# Altium footprint library LFCSP-72.PcbLib: 1 footprints
Each footprint in its own frame and in the unit in brackets; x right, y up, seen from the top. Pads: shape width x height; smd on the part's side, far side on the other; paste and mask are expansions set on the pad; w line width, h text height; cw(c..) or ccw(c..) is an arc to the next point about the centre after c.
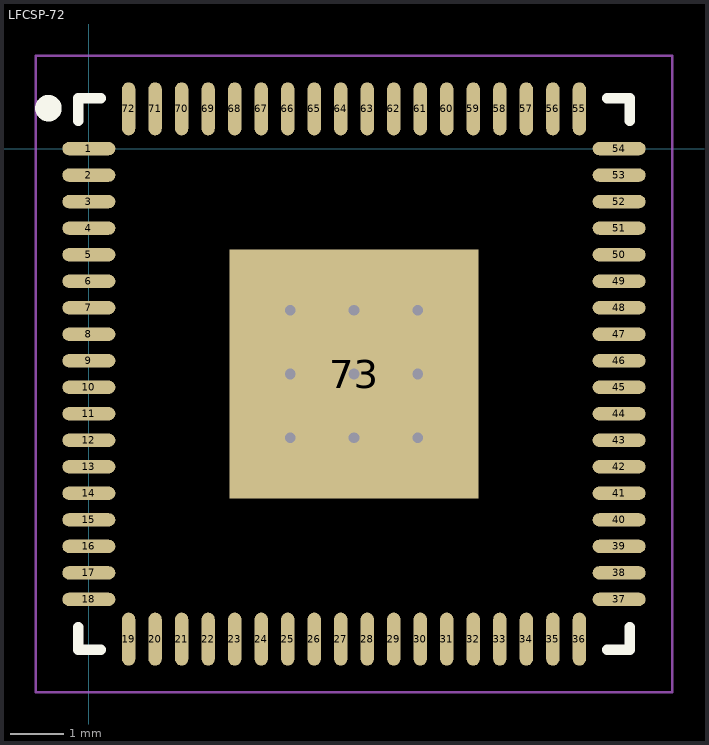
[diagram p0: the footprint, top view; thin cyan lines are the x and y axes]

## LFCSP-72 [mm]
pads (73):
  oval 1x0.25 smd: 1(0,0) 2(0,-0.5) 3(0,-1) 4(0,-1.5) 5(0,-2) 6(0,-2.5) 7(0,-3) 8(0,-3.5) 9(0,-4) 10(0,-4.5) 11(0,-5) 12(0,-5.5) 13(0,-6) 14(0,-6.5) 15(0,-7) 16(0,-7.5) 17(0,-8) 18(0,-8.5) 37(10,-8.5) 38(10,-8) 39(10,-7.5) 40(10,-7) 41(10,-6.5) 42(10,-6) 43(10,-5.5) 44(10,-5) 45(10,-4.5) 46(10,-4) 47(10,-3.5) 48(10,-3) 49(10,-2.5) 50(10,-2) 51(10,-1.5) 52(10,-1) 53(10,-0.5) 54(10,0)
  oval 0.25x1 smd: 19(0.75,-9.25) 20(1.25,-9.25) 21(1.75,-9.25) 22(2.25,-9.25) 23(2.75,-9.25) 24(3.25,-9.25) 25(3.75,-9.25) 26(4.25,-9.25) 27(4.75,-9.25) 28(5.25,-9.25) 29(5.75,-9.25) 30(6.25,-9.25) 31(6.75,-9.25) 32(7.25,-9.25) 33(7.75,-9.25) 34(8.25,-9.25) 35(8.75,-9.25) 36(9.25,-9.25) 55(9.25,0.75) 56(8.75,0.75) 57(8.25,0.75) 58(7.75,0.75) 59(7.25,0.75) 60(6.75,0.75) 61(6.25,0.75) 62(5.75,0.75) 63(5.25,0.75) 64(4.75,0.75) 65(4.25,0.75) 66(3.75,0.75) 67(3.25,0.75) 68(2.75,0.75) 69(2.25,0.75) 70(1.75,0.75) 71(1.25,0.75) 72(0.75,0.75)
  rect 4.7x4.7 smd paste-2.35: 73(5,-4.25)
via 3.8,-5.45 diameter 0.5 hole 0.2
via 5,-5.45 diameter 0.5 hole 0.2
via 6.2,-5.45 diameter 0.5 hole 0.2
via 3.8,-4.25 diameter 0.5 hole 0.2
via 5,-4.25 diameter 0.5 hole 0.2
via 6.2,-4.25 diameter 0.5 hole 0.2
via 6.2,-3.05 diameter 0.5 hole 0.2
via 5,-3.05 diameter 0.5 hole 0.2
via 3.8,-3.05 diameter 0.5 hole 0.2
Top Overlay:
  circle w0.25: c-0.762,0.762 r0.125
  lines w0.2: -0.2,-9.025 -0.2,-9.45 0.225,-9.45 ; -0.2,0.525 -0.2,0.95 0.225,0.95 ; 9.775,-9.45 10.2,-9.45 10.2,-9.025 ; 9.775,0.95 10.2,0.95 10.2,0.525
Top Paste:
  rectangle: 2.8,-4 4.8,-2
  rectangle: 2.8,-6.475 4.8,-4.475
  rectangle: 5.225,-6.475 7.225,-4.475
  rectangle: 5.225,-4 7.225,-2
Mechanical 15:
  lines w0.05: -1,-10.25 11,-10.25 11,1.75 -1,1.75 -1,-10.25
  lines w0.1: 4.5,-4.25 5.5,-4.25 ; 5,-4.75 5,-3.75
3D body "LFCSP-72.STEP": height 1, standoff 0, extent -0.015,-9.27 10.025,0.77